# Altium integrated library Vishay Telefunken Discrete Diode.IntLib: 135 symbols (part 2 of 2)
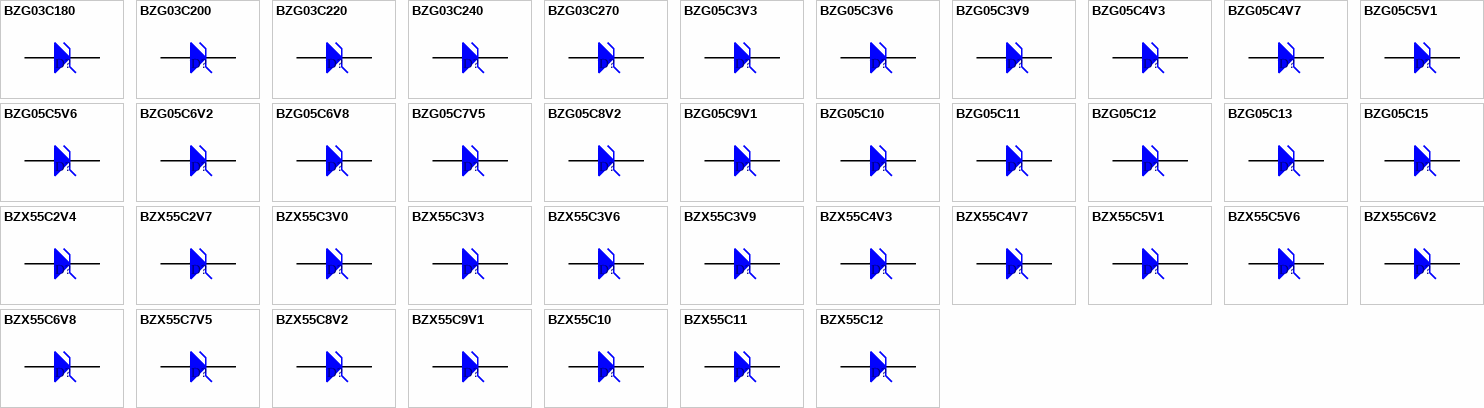
[diagram p4: symbols BZG03C180 to BZX55C12]

## BZX55C11
designator D?
Silicon Epitaxial Planar Zener Diode (0.3 to 0.5W); Published: 8-Jun-2000; LatestRevisionDate: 17-Jul-2002; LatestRevisionNote: Re-released for DXP Platform.; DatasheetDocument: 1-Apr-1999; PackageReference: DO-35; Publisher: Altium Limited; Code_JEDEC: DO-204-AH; ComponentLink1Description: Manufacturer Link; ComponentLink1URL: http://www.vishay.com/; ComponentLink2Description: Datasheet; ComponentLink2URL: http://www.vishay.com/docs/85604/85604.pdf
footprint DO-35 (Diode, Axial; Body 3.9 x 1.7 mm (LxDia. max), Lead Dia. 0.55 mm (max))
simulation model BZX55C11 (SUBCKT)
signal-integrity model BZX55C11
pins: 1 A, 2 K

## BZX55C12
designator D?
Silicon Epitaxial Planar Zener Diode (0.3 to 0.5W); Published: 8-Jun-2000; LatestRevisionDate: 17-Jul-2002; LatestRevisionNote: Re-released for DXP Platform.; DatasheetDocument: 1-Apr-1999; PackageReference: DO-35; Publisher: Altium Limited; Code_JEDEC: DO-204-AH; ComponentLink1Description: Manufacturer Link; ComponentLink1URL: http://www.vishay.com/; ComponentLink2Description: Datasheet; ComponentLink2URL: http://www.vishay.com/docs/85604/85604.pdf
footprint DO-35 (Diode, Axial; Body 3.9 x 1.7 mm (LxDia. max), Lead Dia. 0.55 mm (max))
simulation model BZX55C12 (SUBCKT)
signal-integrity model BZX55C12
pins: 1 A, 2 K

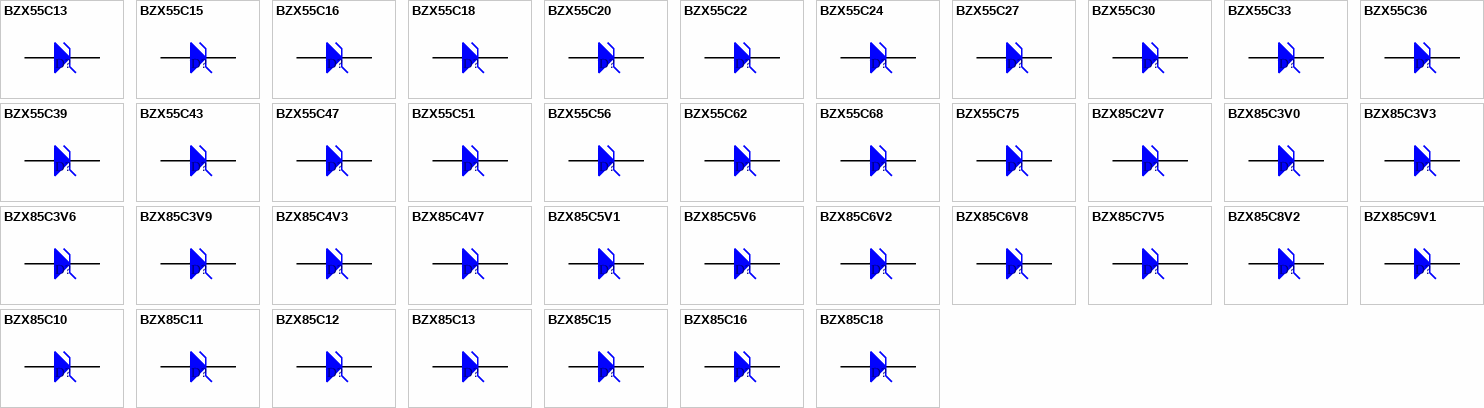
[diagram p2: symbols BZX55C13 to BZX85C18]

## BZX55C13
designator D?
Silicon Epitaxial Planar Zener Diode (0.3 to 0.5W); Published: 8-Jun-2000; LatestRevisionDate: 17-Jul-2002; LatestRevisionNote: Re-released for DXP Platform.; DatasheetDocument: 1-Apr-1999; PackageReference: DO-35; Publisher: Altium Limited; Code_JEDEC: DO-204-AH; ComponentLink1Description: Manufacturer Link; ComponentLink1URL: http://www.vishay.com/; ComponentLink2Description: Datasheet; ComponentLink2URL: http://www.vishay.com/docs/85604/85604.pdf
footprint DO-35 (Diode, Axial; Body 3.9 x 1.7 mm (LxDia. max), Lead Dia. 0.55 mm (max))
simulation model BZX55C13 (SUBCKT)
signal-integrity model BZX55C13
pins: 1 A, 2 K

## BZX55C15
designator D?
Silicon Epitaxial Planar Zener Diode (0.3 to 0.5W); Published: 8-Jun-2000; LatestRevisionDate: 17-Jul-2002; LatestRevisionNote: Re-released for DXP Platform.; DatasheetDocument: 1-Apr-1999; PackageReference: DO-35; Publisher: Altium Limited; Code_JEDEC: DO-204-AH; ComponentLink1Description: Manufacturer Link; ComponentLink1URL: http://www.vishay.com/; ComponentLink2Description: Datasheet; ComponentLink2URL: http://www.vishay.com/docs/85604/85604.pdf
footprint DO-35 (Diode, Axial; Body 3.9 x 1.7 mm (LxDia. max), Lead Dia. 0.55 mm (max))
simulation model BZX55C15 (SUBCKT)
signal-integrity model BZX55C15
pins: 1 A, 2 K

## BZX55C16
designator D?
Silicon Epitaxial Planar Zener Diode (0.3 to 0.5W); Published: 8-Jun-2000; LatestRevisionDate: 17-Jul-2002; LatestRevisionNote: Re-released for DXP Platform.; DatasheetDocument: 1-Apr-1999; PackageReference: DO-35; Publisher: Altium Limited; Code_JEDEC: DO-204-AH; ComponentLink1Description: Manufacturer Link; ComponentLink1URL: http://www.vishay.com/; ComponentLink2Description: Datasheet; ComponentLink2URL: http://www.vishay.com/docs/85604/85604.pdf
footprint DO-35 (Diode, Axial; Body 3.9 x 1.7 mm (LxDia. max), Lead Dia. 0.55 mm (max))
simulation model BZX55C16 (SUBCKT)
signal-integrity model BZX55C16
pins: 1 A, 2 K

## BZX55C18
designator D?
Silicon Epitaxial Planar Zener Diode (0.3 to 0.5W); Published: 8-Jun-2000; LatestRevisionDate: 17-Jul-2002; LatestRevisionNote: Re-released for DXP Platform.; DatasheetDocument: 1-Apr-1999; PackageReference: DO-35; Publisher: Altium Limited; Code_JEDEC: DO-204-AH; ComponentLink1Description: Manufacturer Link; ComponentLink1URL: http://www.vishay.com/; ComponentLink2Description: Datasheet; ComponentLink2URL: http://www.vishay.com/docs/85604/85604.pdf
footprint DO-35 (Diode, Axial; Body 3.9 x 1.7 mm (LxDia. max), Lead Dia. 0.55 mm (max))
simulation model BZX55C18 (SUBCKT)
signal-integrity model BZX55C18
pins: 1 A, 2 K

## BZX55C20
designator D?
Silicon Epitaxial Planar Zener Diode (0.3 to 0.5W); Published: 8-Jun-2000; LatestRevisionDate: 17-Jul-2002; LatestRevisionNote: Re-released for DXP Platform.; DatasheetDocument: 1-Apr-1999; PackageReference: DO-35; Publisher: Altium Limited; Code_JEDEC: DO-204-AH; ComponentLink1Description: Manufacturer Link; ComponentLink1URL: http://www.vishay.com/; ComponentLink2Description: Datasheet; ComponentLink2URL: http://www.vishay.com/docs/85604/85604.pdf
footprint DO-35 (Diode, Axial; Body 3.9 x 1.7 mm (LxDia. max), Lead Dia. 0.55 mm (max))
simulation model BZX55C20 (SUBCKT)
signal-integrity model BZX55C20
pins: 1 A, 2 K

## BZX55C22
designator D?
Silicon Epitaxial Planar Zener Diode (0.3 to 0.5W); Published: 8-Jun-2000; LatestRevisionDate: 17-Jul-2002; LatestRevisionNote: Re-released for DXP Platform.; DatasheetDocument: 1-Apr-1999; PackageReference: DO-35; Publisher: Altium Limited; Code_JEDEC: DO-204-AH; ComponentLink1Description: Manufacturer Link; ComponentLink1URL: http://www.vishay.com/; ComponentLink2Description: Datasheet; ComponentLink2URL: http://www.vishay.com/docs/85604/85604.pdf
footprint DO-35 (Diode, Axial; Body 3.9 x 1.7 mm (LxDia. max), Lead Dia. 0.55 mm (max))
simulation model BZX55C22 (SUBCKT)
signal-integrity model BZX55C22
pins: 1 A, 2 K

## BZX55C24
designator D?
Silicon Epitaxial Planar Zener Diode (0.3 to 0.5W); Published: 8-Jun-2000; LatestRevisionDate: 17-Jul-2002; LatestRevisionNote: Re-released for DXP Platform.; DatasheetDocument: 1-Apr-1999; PackageReference: DO-35; Publisher: Altium Limited; Code_JEDEC: DO-204-AH; ComponentLink1Description: Manufacturer Link; ComponentLink1URL: http://www.vishay.com/; ComponentLink2Description: Datasheet; ComponentLink2URL: http://www.vishay.com/docs/85604/85604.pdf
footprint DO-35 (Diode, Axial; Body 3.9 x 1.7 mm (LxDia. max), Lead Dia. 0.55 mm (max))
simulation model BZX55C24 (SUBCKT)
signal-integrity model BZX55C24
pins: 1 A, 2 K

## BZX55C27
designator D?
Silicon Epitaxial Planar Zener Diode (0.3 to 0.5W); Published: 8-Jun-2000; LatestRevisionDate: 17-Jul-2002; LatestRevisionNote: Re-released for DXP Platform.; DatasheetDocument: 1-Apr-1999; PackageReference: DO-35; Publisher: Altium Limited; Code_JEDEC: DO-204-AH; ComponentLink1Description: Manufacturer Link; ComponentLink1URL: http://www.vishay.com/; ComponentLink2Description: Datasheet; ComponentLink2URL: http://www.vishay.com/docs/85604/85604.pdf
footprint DO-35 (Diode, Axial; Body 3.9 x 1.7 mm (LxDia. max), Lead Dia. 0.55 mm (max))
simulation model BZX55C27 (SUBCKT)
signal-integrity model BZX55C27
pins: 1 A, 2 K

## BZX55C30
designator D?
Silicon Epitaxial Planar Zener Diode (0.3 to 0.5W); Published: 8-Jun-2000; LatestRevisionDate: 17-Jul-2002; LatestRevisionNote: Re-released for DXP Platform.; DatasheetDocument: 1-Apr-1999; PackageReference: DO-35; Publisher: Altium Limited; Code_JEDEC: DO-204-AH; ComponentLink1Description: Manufacturer Link; ComponentLink1URL: http://www.vishay.com/; ComponentLink2Description: Datasheet; ComponentLink2URL: http://www.vishay.com/docs/85604/85604.pdf
footprint DO-35 (Diode, Axial; Body 3.9 x 1.7 mm (LxDia. max), Lead Dia. 0.55 mm (max))
simulation model BZX55C30 (SUBCKT)
signal-integrity model BZX55C30
pins: 1 A, 2 K

## BZX55C33
designator D?
Silicon Epitaxial Planar Zener Diode (0.3 to 0.5W); Published: 8-Jun-2000; LatestRevisionDate: 17-Jul-2002; LatestRevisionNote: Re-released for DXP Platform.; DatasheetDocument: 1-Apr-1999; PackageReference: DO-35; Publisher: Altium Limited; Code_JEDEC: DO-204-AH; ComponentLink1Description: Manufacturer Link; ComponentLink1URL: http://www.vishay.com/; ComponentLink2Description: Datasheet; ComponentLink2URL: http://www.vishay.com/docs/85604/85604.pdf
footprint DO-35 (Diode, Axial; Body 3.9 x 1.7 mm (LxDia. max), Lead Dia. 0.55 mm (max))
simulation model BZX55C33 (SUBCKT)
signal-integrity model BZX55C33
pins: 1 A, 2 K

## BZX55C36
designator D?
Silicon Epitaxial Planar Zener Diode (0.3 to 0.5W); Published: 8-Jun-2000; LatestRevisionDate: 17-Jul-2002; LatestRevisionNote: Re-released for DXP Platform.; DatasheetDocument: 1-Apr-1999; PackageReference: DO-35; Publisher: Altium Limited; Code_JEDEC: DO-204-AH; ComponentLink1Description: Manufacturer Link; ComponentLink1URL: http://www.vishay.com/; ComponentLink2Description: Datasheet; ComponentLink2URL: http://www.vishay.com/docs/85604/85604.pdf
footprint DO-35 (Diode, Axial; Body 3.9 x 1.7 mm (LxDia. max), Lead Dia. 0.55 mm (max))
simulation model BZX55C36 (SUBCKT)
signal-integrity model BZX55C36
pins: 1 A, 2 K

## BZX55C39
designator D?
Silicon Epitaxial Planar Zener Diode (0.3 to 0.5W); Published: 8-Jun-2000; LatestRevisionDate: 17-Jul-2002; LatestRevisionNote: Re-released for DXP Platform.; DatasheetDocument: 1-Apr-1999; PackageReference: DO-35; Publisher: Altium Limited; Code_JEDEC: DO-204-AH; ComponentLink1Description: Manufacturer Link; ComponentLink1URL: http://www.vishay.com/; ComponentLink2Description: Datasheet; ComponentLink2URL: http://www.vishay.com/docs/85604/85604.pdf
footprint DO-35 (Diode, Axial; Body 3.9 x 1.7 mm (LxDia. max), Lead Dia. 0.55 mm (max))
simulation model BZX55C39 (SUBCKT)
signal-integrity model BZX55C39
pins: 1 A, 2 K

## BZX55C43
designator D?
Silicon Epitaxial Planar Zener Diode (0.3 to 0.5W); Published: 8-Jun-2000; LatestRevisionDate: 17-Jul-2002; LatestRevisionNote: Re-released for DXP Platform.; DatasheetDocument: 1-Apr-1999; PackageReference: DO-35; Publisher: Altium Limited; Code_JEDEC: DO-204-AH; ComponentLink1Description: Manufacturer Link; ComponentLink1URL: http://www.vishay.com/; ComponentLink2Description: Datasheet; ComponentLink2URL: http://www.vishay.com/docs/85604/85604.pdf
footprint DO-35 (Diode, Axial; Body 3.9 x 1.7 mm (LxDia. max), Lead Dia. 0.55 mm (max))
simulation model BZX55C43 (SUBCKT)
signal-integrity model BZX55C43
pins: 1 A, 2 K

## BZX55C47
designator D?
Silicon Epitaxial Planar Zener Diode (0.3 to 0.5W); Published: 8-Jun-2000; LatestRevisionDate: 17-Jul-2002; LatestRevisionNote: Re-released for DXP Platform.; DatasheetDocument: 1-Apr-1999; PackageReference: DO-35; Publisher: Altium Limited; Code_JEDEC: DO-204-AH; ComponentLink1Description: Manufacturer Link; ComponentLink1URL: http://www.vishay.com/; ComponentLink2Description: Datasheet; ComponentLink2URL: http://www.vishay.com/docs/85604/85604.pdf
footprint DO-35 (Diode, Axial; Body 3.9 x 1.7 mm (LxDia. max), Lead Dia. 0.55 mm (max))
simulation model BZX55C47 (SUBCKT)
signal-integrity model BZX55C47
pins: 1 A, 2 K

## BZX55C51
designator D?
Silicon Epitaxial Planar Zener Diode (0.3 to 0.5W); Published: 8-Jun-2000; LatestRevisionDate: 17-Jul-2002; LatestRevisionNote: Re-released for DXP Platform.; DatasheetDocument: 1-Apr-1999; PackageReference: DO-35; Publisher: Altium Limited; Code_JEDEC: DO-204-AH; ComponentLink1Description: Manufacturer Link; ComponentLink1URL: http://www.vishay.com/; ComponentLink2Description: Datasheet; ComponentLink2URL: http://www.vishay.com/docs/85604/85604.pdf
footprint DO-35 (Diode, Axial; Body 3.9 x 1.7 mm (LxDia. max), Lead Dia. 0.55 mm (max))
simulation model BZX55C51 (SUBCKT)
signal-integrity model BZX55C51
pins: 1 A, 2 K

## BZX55C56
designator D?
Silicon Epitaxial Planar Zener Diode (0.3 to 0.5W); Published: 8-Jun-2000; LatestRevisionDate: 17-Jul-2002; LatestRevisionNote: Re-released for DXP Platform.; DatasheetDocument: 1-Apr-1999; PackageReference: DO-35; Publisher: Altium Limited; Code_JEDEC: DO-204-AH; ComponentLink1Description: Manufacturer Link; ComponentLink1URL: http://www.vishay.com/; ComponentLink2Description: Datasheet; ComponentLink2URL: http://www.vishay.com/docs/85604/85604.pdf
footprint DO-35 (Diode, Axial; Body 3.9 x 1.7 mm (LxDia. max), Lead Dia. 0.55 mm (max))
simulation model BZX55C56 (SUBCKT)
signal-integrity model BZX55C56
pins: 1 A, 2 K

## BZX55C62
designator D?
Silicon Epitaxial Planar Zener Diode (0.3 to 0.5W); Published: 8-Jun-2000; LatestRevisionDate: 17-Jul-2002; LatestRevisionNote: Re-released for DXP Platform.; DatasheetDocument: 1-Apr-1999; PackageReference: DO-35; Publisher: Altium Limited; Code_JEDEC: DO-204-AH; ComponentLink1Description: Manufacturer Link; ComponentLink1URL: http://www.vishay.com/; ComponentLink2Description: Datasheet; ComponentLink2URL: http://www.vishay.com/docs/85604/85604.pdf
footprint DO-35 (Diode, Axial; Body 3.9 x 1.7 mm (LxDia. max), Lead Dia. 0.55 mm (max))
simulation model BZX55C62 (SUBCKT)
signal-integrity model BZX55C62
pins: 1 A, 2 K

## BZX55C68
designator D?
Silicon Epitaxial Planar Zener Diode (0.3 to 0.5W); Published: 8-Jun-2000; LatestRevisionDate: 17-Jul-2002; LatestRevisionNote: Re-released for DXP Platform.; DatasheetDocument: 1-Apr-1999; PackageReference: DO-35; Publisher: Altium Limited; Code_JEDEC: DO-204-AH; ComponentLink1Description: Manufacturer Link; ComponentLink1URL: http://www.vishay.com/; ComponentLink2Description: Datasheet; ComponentLink2URL: http://www.vishay.com/docs/85604/85604.pdf
footprint DO-35 (Diode, Axial; Body 3.9 x 1.7 mm (LxDia. max), Lead Dia. 0.55 mm (max))
simulation model BZX55C68 (SUBCKT)
signal-integrity model BZX55C68
pins: 1 A, 2 K

## BZX55C75
designator D?
Silicon Epitaxial Planar Zener Diode (0.3 to 0.5W); Published: 8-Jun-2000; LatestRevisionDate: 17-Jul-2002; LatestRevisionNote: Re-released for DXP Platform.; DatasheetDocument: 1-Apr-1999; PackageReference: DO-35; Publisher: Altium Limited; Code_JEDEC: DO-204-AH; ComponentLink1Description: Manufacturer Link; ComponentLink1URL: http://www.vishay.com/; ComponentLink2Description: Datasheet; ComponentLink2URL: http://www.vishay.com/docs/85604/85604.pdf
footprint DO-35 (Diode, Axial; Body 3.9 x 1.7 mm (LxDia. max), Lead Dia. 0.55 mm (max))
simulation model BZX55C75 (SUBCKT)
signal-integrity model BZX55C75
pins: 1 A, 2 K

## BZX85C2V7
designator D?
Silicon Epitaxial Planar Zener Diode (1W); Published: 8-Jun-2000; LatestRevisionDate: 17-Jul-2002; LatestRevisionNote: Re-released for DXP Platform.; DatasheetDocument: 1-Apr-1999; PackageReference: DO41; Publisher: Altium Limited; Code_JEDEC: DO-204-AM; ComponentLink1Description: Manufacturer Link; ComponentLink1URL: http://www.vishay.com/; ComponentLink2Description: Datasheet; ComponentLink2URL: http://www.vishay.com/docs/85607/85607.pdf
footprint DO41 (Diode, Axial; Body 4.1 x 2.5 mm (LxDia. max), Lead Dia. 0.85 mm (max))
simulation model BZX85C2V7 (SUBCKT)
signal-integrity model BZX85C2V7
pins: 1 A, 2 K

## BZX85C3V0
designator D?
Silicon Epitaxial Planar Zener Diode (1W); Published: 8-Jun-2000; LatestRevisionDate: 17-Jul-2002; LatestRevisionNote: Re-released for DXP Platform.; DatasheetDocument: 1-Apr-1999; PackageReference: DO41; Publisher: Altium Limited; Code_JEDEC: DO-204-AM; ComponentLink1Description: Manufacturer Link; ComponentLink1URL: http://www.vishay.com/; ComponentLink2Description: Datasheet; ComponentLink2URL: http://www.vishay.com/docs/85607/85607.pdf
footprint DO41 (Diode, Axial; Body 4.1 x 2.5 mm (LxDia. max), Lead Dia. 0.85 mm (max))
simulation model BZX85C3V0 (SUBCKT)
signal-integrity model BZX85C3V0
pins: 1 A, 2 K

## BZX85C3V3
designator D?
Silicon Epitaxial Planar Zener Diode (1W); Published: 8-Jun-2000; LatestRevisionDate: 17-Jul-2002; LatestRevisionNote: Re-released for DXP Platform.; DatasheetDocument: 1-Apr-1999; PackageReference: DO41; Publisher: Altium Limited; Code_JEDEC: DO-204-AM; ComponentLink1Description: Manufacturer Link; ComponentLink1URL: http://www.vishay.com/; ComponentLink2Description: Datasheet; ComponentLink2URL: http://www.vishay.com/docs/85607/85607.pdf
footprint DO41 (Diode, Axial; Body 4.1 x 2.5 mm (LxDia. max), Lead Dia. 0.85 mm (max))
simulation model BZX85C3V3 (SUBCKT)
signal-integrity model BZX85C3V3
pins: 1 A, 2 K

## BZX85C3V6
designator D?
Silicon Epitaxial Planar Zener Diode (1W); Published: 8-Jun-2000; LatestRevisionDate: 17-Jul-2002; LatestRevisionNote: Re-released for DXP Platform.; DatasheetDocument: 1-Apr-1999; PackageReference: DO41; Publisher: Altium Limited; Code_JEDEC: DO-204-AM; ComponentLink1Description: Manufacturer Link; ComponentLink1URL: http://www.vishay.com/; ComponentLink2Description: Datasheet; ComponentLink2URL: http://www.vishay.com/docs/85607/85607.pdf
footprint DO41 (Diode, Axial; Body 4.1 x 2.5 mm (LxDia. max), Lead Dia. 0.85 mm (max))
simulation model BZX85C3V6 (SUBCKT)
signal-integrity model BZX85C3V6
pins: 1 A, 2 K

## BZX85C3V9
designator D?
Silicon Epitaxial Planar Zener Diode (1W); Published: 8-Jun-2000; LatestRevisionDate: 17-Jul-2002; LatestRevisionNote: Re-released for DXP Platform.; DatasheetDocument: 1-Apr-1999; PackageReference: DO41; Publisher: Altium Limited; Code_JEDEC: DO-204-AM; ComponentLink1Description: Manufacturer Link; ComponentLink1URL: http://www.vishay.com/; ComponentLink2Description: Datasheet; ComponentLink2URL: http://www.vishay.com/docs/85607/85607.pdf
footprint DO41 (Diode, Axial; Body 4.1 x 2.5 mm (LxDia. max), Lead Dia. 0.85 mm (max))
simulation model BZX85C3V9 (SUBCKT)
signal-integrity model BZX85C3V9
pins: 1 A, 2 K

## BZX85C4V3
designator D?
Silicon Epitaxial Planar Zener Diode (1W); Published: 8-Jun-2000; LatestRevisionDate: 17-Jul-2002; LatestRevisionNote: Re-released for DXP Platform.; DatasheetDocument: 1-Apr-1999; PackageReference: DO41; Publisher: Altium Limited; Code_JEDEC: DO-204-AM; ComponentLink1Description: Manufacturer Link; ComponentLink1URL: http://www.vishay.com/; ComponentLink2Description: Datasheet; ComponentLink2URL: http://www.vishay.com/docs/85607/85607.pdf
footprint DO41 (Diode, Axial; Body 4.1 x 2.5 mm (LxDia. max), Lead Dia. 0.85 mm (max))
simulation model BZX85C4V3 (SUBCKT)
signal-integrity model BZX85C4V3
pins: 1 A, 2 K

## BZX85C4V7
designator D?
Silicon Epitaxial Planar Zener Diode (1W); Published: 8-Jun-2000; LatestRevisionDate: 17-Jul-2002; LatestRevisionNote: Re-released for DXP Platform.; DatasheetDocument: 1-Apr-1999; PackageReference: DO41; Publisher: Altium Limited; Code_JEDEC: DO-204-AM; ComponentLink1Description: Manufacturer Link; ComponentLink1URL: http://www.vishay.com/; ComponentLink2Description: Datasheet; ComponentLink2URL: http://www.vishay.com/docs/85607/85607.pdf
footprint DO41 (Diode, Axial; Body 4.1 x 2.5 mm (LxDia. max), Lead Dia. 0.85 mm (max))
simulation model BZX85C4V7 (SUBCKT)
signal-integrity model BZX85C4V7
pins: 1 A, 2 K

## BZX85C5V1
designator D?
Silicon Epitaxial Planar Zener Diode (1W); Published: 8-Jun-2000; LatestRevisionDate: 17-Jul-2002; LatestRevisionNote: Re-released for DXP Platform.; DatasheetDocument: 1-Apr-1999; PackageReference: DO41; Publisher: Altium Limited; Code_JEDEC: DO-204-AM; ComponentLink1Description: Manufacturer Link; ComponentLink1URL: http://www.vishay.com/; ComponentLink2Description: Datasheet; ComponentLink2URL: http://www.vishay.com/docs/85607/85607.pdf
footprint DO41 (Diode, Axial; Body 4.1 x 2.5 mm (LxDia. max), Lead Dia. 0.85 mm (max))
simulation model BZX85C5V1 (SUBCKT)
signal-integrity model BZX85C5V1
pins: 1 A, 2 K

## BZX85C5V6
designator D?
Silicon Epitaxial Planar Zener Diode (1W); Published: 8-Jun-2000; LatestRevisionDate: 17-Jul-2002; LatestRevisionNote: Re-released for DXP Platform.; DatasheetDocument: 1-Apr-1999; PackageReference: DO41; Publisher: Altium Limited; Code_JEDEC: DO-204-AM; ComponentLink1Description: Manufacturer Link; ComponentLink1URL: http://www.vishay.com/; ComponentLink2Description: Datasheet; ComponentLink2URL: http://www.vishay.com/docs/85607/85607.pdf
footprint DO41 (Diode, Axial; Body 4.1 x 2.5 mm (LxDia. max), Lead Dia. 0.85 mm (max))
simulation model BZX85C5V6 (SUBCKT)
signal-integrity model BZX85C5V6
pins: 1 A, 2 K

## BZX85C6V2
designator D?
Silicon Epitaxial Planar Zener Diode (1W); Published: 8-Jun-2000; LatestRevisionDate: 17-Jul-2002; LatestRevisionNote: Re-released for DXP Platform.; DatasheetDocument: 1-Apr-1999; PackageReference: DO41; Publisher: Altium Limited; Code_JEDEC: DO-204-AM; ComponentLink1Description: Manufacturer Link; ComponentLink1URL: http://www.vishay.com/; ComponentLink2Description: Datasheet; ComponentLink2URL: http://www.vishay.com/docs/85607/85607.pdf
footprint DO41 (Diode, Axial; Body 4.1 x 2.5 mm (LxDia. max), Lead Dia. 0.85 mm (max))
simulation model BZX85C6V2 (SUBCKT)
signal-integrity model BZX85C6V2
pins: 1 A, 2 K

## BZX85C6V8
designator D?
Silicon Epitaxial Planar Zener Diode (1W); Published: 8-Jun-2000; LatestRevisionDate: 17-Jul-2002; LatestRevisionNote: Re-released for DXP Platform.; DatasheetDocument: 1-Apr-1999; PackageReference: DO41; Publisher: Altium Limited; Code_JEDEC: DO-204-AM; ComponentLink1Description: Manufacturer Link; ComponentLink1URL: http://www.vishay.com/; ComponentLink2Description: Datasheet; ComponentLink2URL: http://www.vishay.com/docs/85607/85607.pdf
footprint DO41 (Diode, Axial; Body 4.1 x 2.5 mm (LxDia. max), Lead Dia. 0.85 mm (max))
simulation model BZX85C6V8 (SUBCKT)
signal-integrity model BZX85C6V8
pins: 1 A, 2 K

## BZX85C7V5
designator D?
Silicon Epitaxial Planar Zener Diode (1W); Published: 8-Jun-2000; LatestRevisionDate: 17-Jul-2002; LatestRevisionNote: Re-released for DXP Platform.; DatasheetDocument: 1-Apr-1999; PackageReference: DO41; Publisher: Altium Limited; Code_JEDEC: DO-204-AM; ComponentLink1Description: Manufacturer Link; ComponentLink1URL: http://www.vishay.com/; ComponentLink2Description: Datasheet; ComponentLink2URL: http://www.vishay.com/docs/85607/85607.pdf
footprint DO41 (Diode, Axial; Body 4.1 x 2.5 mm (LxDia. max), Lead Dia. 0.85 mm (max))
simulation model BZX85C7V5 (SUBCKT)
signal-integrity model BZX85C7V5
pins: 1 A, 2 K

## BZX85C8V2
designator D?
Silicon Epitaxial Planar Zener Diode (1W); Published: 8-Jun-2000; LatestRevisionDate: 17-Jul-2002; LatestRevisionNote: Re-released for DXP Platform.; DatasheetDocument: 1-Apr-1999; PackageReference: DO41; Publisher: Altium Limited; Code_JEDEC: DO-204-AM; ComponentLink1Description: Manufacturer Link; ComponentLink1URL: http://www.vishay.com/; ComponentLink2Description: Datasheet; ComponentLink2URL: http://www.vishay.com/docs/85607/85607.pdf
footprint DO41 (Diode, Axial; Body 4.1 x 2.5 mm (LxDia. max), Lead Dia. 0.85 mm (max))
simulation model BZX85C8V2 (SUBCKT)
signal-integrity model BZX85C8V2
pins: 1 A, 2 K

## BZX85C9V1
designator D?
Silicon Epitaxial Planar Zener Diode (1W); Published: 8-Jun-2000; LatestRevisionDate: 17-Jul-2002; LatestRevisionNote: Re-released for DXP Platform.; DatasheetDocument: 1-Apr-1999; PackageReference: DO41; Publisher: Altium Limited; Code_JEDEC: DO-204-AM; ComponentLink1Description: Manufacturer Link; ComponentLink1URL: http://www.vishay.com/; ComponentLink2Description: Datasheet; ComponentLink2URL: http://www.vishay.com/docs/85607/85607.pdf
footprint DO41 (Diode, Axial; Body 4.1 x 2.5 mm (LxDia. max), Lead Dia. 0.85 mm (max))
simulation model BZX85C9V1 (SUBCKT)
signal-integrity model BZX85C9V1
pins: 1 A, 2 K

## BZX85C10
designator D?
Silicon Epitaxial Planar Zener Diode (1W); Published: 8-Jun-2000; LatestRevisionDate: 17-Jul-2002; LatestRevisionNote: Re-released for DXP Platform.; DatasheetDocument: 1-Apr-1999; PackageReference: DO41; Publisher: Altium Limited; Code_JEDEC: DO-204-AM; ComponentLink1Description: Manufacturer Link; ComponentLink1URL: http://www.vishay.com/; ComponentLink2Description: Datasheet; ComponentLink2URL: http://www.vishay.com/docs/85607/85607.pdf
footprint DO41 (Diode, Axial; Body 4.1 x 2.5 mm (LxDia. max), Lead Dia. 0.85 mm (max))
simulation model BZX85C10 (SUBCKT)
signal-integrity model BZX85C10
pins: 1 A, 2 K

## BZX85C11
designator D?
Silicon Epitaxial Planar Zener Diode (1W); Published: 8-Jun-2000; LatestRevisionDate: 17-Jul-2002; LatestRevisionNote: Re-released for DXP Platform.; DatasheetDocument: 1-Apr-1999; PackageReference: DO41; Publisher: Altium Limited; Code_JEDEC: DO-204-AM; ComponentLink1Description: Manufacturer Link; ComponentLink1URL: http://www.vishay.com/; ComponentLink2Description: Datasheet; ComponentLink2URL: http://www.vishay.com/docs/85607/85607.pdf
footprint DO41 (Diode, Axial; Body 4.1 x 2.5 mm (LxDia. max), Lead Dia. 0.85 mm (max))
simulation model BZX85C11 (SUBCKT)
signal-integrity model BZX85C11
pins: 1 A, 2 K

## BZX85C12
designator D?
Silicon Epitaxial Planar Zener Diode (1W); Published: 8-Jun-2000; LatestRevisionDate: 17-Jul-2002; LatestRevisionNote: Re-released for DXP Platform.; DatasheetDocument: 1-Apr-1999; PackageReference: DO41; Publisher: Altium Limited; Code_JEDEC: DO-204-AM; ComponentLink1Description: Manufacturer Link; ComponentLink1URL: http://www.vishay.com/; ComponentLink2Description: Datasheet; ComponentLink2URL: http://www.vishay.com/docs/85607/85607.pdf
footprint DO41 (Diode, Axial; Body 4.1 x 2.5 mm (LxDia. max), Lead Dia. 0.85 mm (max))
simulation model BZX85C12 (SUBCKT)
signal-integrity model BZX85C12
pins: 1 A, 2 K

## BZX85C13
designator D?
Silicon Epitaxial Planar Zener Diode (1W); Published: 8-Jun-2000; LatestRevisionDate: 17-Jul-2002; LatestRevisionNote: Re-released for DXP Platform.; DatasheetDocument: 1-Apr-1999; PackageReference: DO41; Publisher: Altium Limited; Code_JEDEC: DO-204-AM; ComponentLink1Description: Manufacturer Link; ComponentLink1URL: http://www.vishay.com/; ComponentLink2Description: Datasheet; ComponentLink2URL: http://www.vishay.com/docs/85607/85607.pdf
footprint DO41 (Diode, Axial; Body 4.1 x 2.5 mm (LxDia. max), Lead Dia. 0.85 mm (max))
simulation model BZX85C13 (SUBCKT)
signal-integrity model BZX85C13
pins: 1 A, 2 K

## BZX85C15
designator D?
Silicon Epitaxial Planar Zener Diode (1W); Published: 8-Jun-2000; LatestRevisionDate: 17-Jul-2002; LatestRevisionNote: Re-released for DXP Platform.; DatasheetDocument: 1-Apr-1999; PackageReference: DO41; Publisher: Altium Limited; Code_JEDEC: DO-204-AM; ComponentLink1Description: Manufacturer Link; ComponentLink1URL: http://www.vishay.com/; ComponentLink2Description: Datasheet; ComponentLink2URL: http://www.vishay.com/docs/85607/85607.pdf
footprint DO41 (Diode, Axial; Body 4.1 x 2.5 mm (LxDia. max), Lead Dia. 0.85 mm (max))
simulation model BZX85C15 (SUBCKT)
signal-integrity model BZX85C15
pins: 1 A, 2 K

## BZX85C16
designator D?
Silicon Epitaxial Planar Zener Diode (1W); Published: 8-Jun-2000; LatestRevisionDate: 17-Jul-2002; LatestRevisionNote: Re-released for DXP Platform.; DatasheetDocument: 1-Apr-1999; PackageReference: DO41; Publisher: Altium Limited; Code_JEDEC: DO-204-AM; ComponentLink1Description: Manufacturer Link; ComponentLink1URL: http://www.vishay.com/; ComponentLink2Description: Datasheet; ComponentLink2URL: http://www.vishay.com/docs/85607/85607.pdf
footprint DO41 (Diode, Axial; Body 4.1 x 2.5 mm (LxDia. max), Lead Dia. 0.85 mm (max))
simulation model BZX85C16 (SUBCKT)
signal-integrity model BZX85C16
pins: 1 A, 2 K

## BZX85C18
designator D?
Silicon Epitaxial Planar Zener Diode (1W); Published: 8-Jun-2000; LatestRevisionDate: 17-Jul-2002; LatestRevisionNote: Re-released for DXP Platform.; DatasheetDocument: 1-Apr-1999; PackageReference: DO41; Publisher: Altium Limited; Code_JEDEC: DO-204-AM; ComponentLink1Description: Manufacturer Link; ComponentLink1URL: http://www.vishay.com/; ComponentLink2Description: Datasheet; ComponentLink2URL: http://www.vishay.com/docs/85607/85607.pdf
footprint DO41 (Diode, Axial; Body 4.1 x 2.5 mm (LxDia. max), Lead Dia. 0.85 mm (max))
simulation model BZX85C18 (SUBCKT)
signal-integrity model BZX85C18
pins: 1 A, 2 K

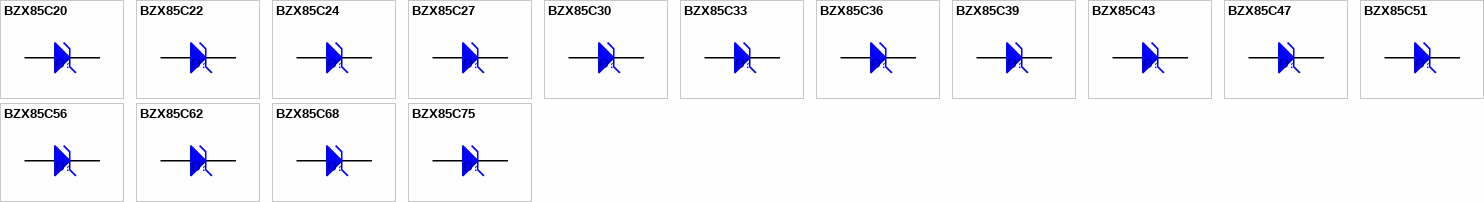
[diagram p3: symbols BZX85C20 to BZX85C75]

## BZX85C20
designator D?
Silicon Epitaxial Planar Zener Diode (1W); Published: 8-Jun-2000; LatestRevisionDate: 17-Jul-2002; LatestRevisionNote: Re-released for DXP Platform.; DatasheetDocument: 1-Apr-1999; PackageReference: DO41; Publisher: Altium Limited; Code_JEDEC: DO-204-AM; ComponentLink1Description: Manufacturer Link; ComponentLink1URL: http://www.vishay.com/; ComponentLink2Description: Datasheet; ComponentLink2URL: http://www.vishay.com/docs/85607/85607.pdf
footprint DO41 (Diode, Axial; Body 4.1 x 2.5 mm (LxDia. max), Lead Dia. 0.85 mm (max))
simulation model BZX85C20 (SUBCKT)
signal-integrity model BZX85C20
pins: 1 A, 2 K

## BZX85C22
designator D?
Silicon Epitaxial Planar Zener Diode (1W); Published: 8-Jun-2000; LatestRevisionDate: 17-Jul-2002; LatestRevisionNote: Re-released for DXP Platform.; DatasheetDocument: 1-Apr-1999; PackageReference: DO41; Publisher: Altium Limited; Code_JEDEC: DO-204-AM; ComponentLink1Description: Manufacturer Link; ComponentLink1URL: http://www.vishay.com/; ComponentLink2Description: Datasheet; ComponentLink2URL: http://www.vishay.com/docs/85607/85607.pdf
footprint DO41 (Diode, Axial; Body 4.1 x 2.5 mm (LxDia. max), Lead Dia. 0.85 mm (max))
simulation model BZX85C22 (SUBCKT)
signal-integrity model BZX85C22
pins: 1 A, 2 K

## BZX85C24
designator D?
Silicon Epitaxial Planar Zener Diode (1W); Published: 8-Jun-2000; LatestRevisionDate: 17-Jul-2002; LatestRevisionNote: Re-released for DXP Platform.; DatasheetDocument: 1-Apr-1999; PackageReference: DO41; Publisher: Altium Limited; Code_JEDEC: DO-204-AM; ComponentLink1Description: Manufacturer Link; ComponentLink1URL: http://www.vishay.com/; ComponentLink2Description: Datasheet; ComponentLink2URL: http://www.vishay.com/docs/85607/85607.pdf
footprint DO41 (Diode, Axial; Body 4.1 x 2.5 mm (LxDia. max), Lead Dia. 0.85 mm (max))
simulation model BZX85C24 (SUBCKT)
signal-integrity model BZX85C24
pins: 1 A, 2 K

## BZX85C27
designator D?
Silicon Epitaxial Planar Zener Diode (1W); Published: 8-Jun-2000; LatestRevisionDate: 17-Jul-2002; LatestRevisionNote: Re-released for DXP Platform.; DatasheetDocument: 1-Apr-1999; PackageReference: DO41; Publisher: Altium Limited; Code_JEDEC: DO-204-AM; ComponentLink1Description: Manufacturer Link; ComponentLink1URL: http://www.vishay.com/; ComponentLink2Description: Datasheet; ComponentLink2URL: http://www.vishay.com/docs/85607/85607.pdf
footprint DO41 (Diode, Axial; Body 4.1 x 2.5 mm (LxDia. max), Lead Dia. 0.85 mm (max))
simulation model BZX85C27 (SUBCKT)
signal-integrity model BZX85C27
pins: 1 A, 2 K

## BZX85C30
designator D?
Silicon Epitaxial Planar Zener Diode (1W); Published: 8-Jun-2000; LatestRevisionDate: 17-Jul-2002; LatestRevisionNote: Re-released for DXP Platform.; DatasheetDocument: 1-Apr-1999; PackageReference: DO41; Publisher: Altium Limited; Code_JEDEC: DO-204-AM; ComponentLink1Description: Manufacturer Link; ComponentLink1URL: http://www.vishay.com/; ComponentLink2Description: Datasheet; ComponentLink2URL: http://www.vishay.com/docs/85607/85607.pdf
footprint DO41 (Diode, Axial; Body 4.1 x 2.5 mm (LxDia. max), Lead Dia. 0.85 mm (max))
simulation model BZX85C30 (SUBCKT)
signal-integrity model BZX85C30
pins: 1 A, 2 K

## BZX85C33
designator D?
Silicon Epitaxial Planar Zener Diode (1W); Published: 8-Jun-2000; LatestRevisionDate: 17-Jul-2002; LatestRevisionNote: Re-released for DXP Platform.; DatasheetDocument: 1-Apr-1999; PackageReference: DO41; Publisher: Altium Limited; Code_JEDEC: DO-204-AM; ComponentLink1Description: Manufacturer Link; ComponentLink1URL: http://www.vishay.com/; ComponentLink2Description: Datasheet; ComponentLink2URL: http://www.vishay.com/docs/85607/85607.pdf
footprint DO41 (Diode, Axial; Body 4.1 x 2.5 mm (LxDia. max), Lead Dia. 0.85 mm (max))
simulation model BZX85C33 (SUBCKT)
signal-integrity model BZX85C33
pins: 1 A, 2 K

## BZX85C36
designator D?
Silicon Epitaxial Planar Zener Diode (1W); Published: 8-Jun-2000; LatestRevisionDate: 17-Jul-2002; LatestRevisionNote: Re-released for DXP Platform.; DatasheetDocument: 1-Apr-1999; PackageReference: DO41; Publisher: Altium Limited; Code_JEDEC: DO-204-AM; ComponentLink1Description: Manufacturer Link; ComponentLink1URL: http://www.vishay.com/; ComponentLink2Description: Datasheet; ComponentLink2URL: http://www.vishay.com/docs/85607/85607.pdf
footprint DO41 (Diode, Axial; Body 4.1 x 2.5 mm (LxDia. max), Lead Dia. 0.85 mm (max))
simulation model BZX85C36 (SUBCKT)
signal-integrity model BZX85C36
pins: 1 A, 2 K

## BZX85C39
designator D?
Silicon Epitaxial Planar Zener Diode (1W); Published: 8-Jun-2000; LatestRevisionDate: 17-Jul-2002; LatestRevisionNote: Re-released for DXP Platform.; DatasheetDocument: 1-Apr-1999; PackageReference: DO41; Publisher: Altium Limited; Code_JEDEC: DO-204-AM; ComponentLink1Description: Manufacturer Link; ComponentLink1URL: http://www.vishay.com/; ComponentLink2Description: Datasheet; ComponentLink2URL: http://www.vishay.com/docs/85607/85607.pdf
footprint DO41 (Diode, Axial; Body 4.1 x 2.5 mm (LxDia. max), Lead Dia. 0.85 mm (max))
simulation model BZX85C39 (SUBCKT)
signal-integrity model BZX85C39
pins: 1 A, 2 K

## BZX85C43
designator D?
Silicon Epitaxial Planar Zener Diode (1W); Published: 8-Jun-2000; LatestRevisionDate: 17-Jul-2002; LatestRevisionNote: Re-released for DXP Platform.; DatasheetDocument: 1-Apr-1999; PackageReference: DO41; Publisher: Altium Limited; Code_JEDEC: DO-204-AM; ComponentLink1Description: Manufacturer Link; ComponentLink1URL: http://www.vishay.com/; ComponentLink2Description: Datasheet; ComponentLink2URL: http://www.vishay.com/docs/85607/85607.pdf
footprint DO41 (Diode, Axial; Body 4.1 x 2.5 mm (LxDia. max), Lead Dia. 0.85 mm (max))
simulation model BZX85C43 (SUBCKT)
signal-integrity model BZX85C43
pins: 1 A, 2 K

## BZX85C47
designator D?
Silicon Epitaxial Planar Zener Diode (1W); Published: 8-Jun-2000; LatestRevisionDate: 17-Jul-2002; LatestRevisionNote: Re-released for DXP Platform.; DatasheetDocument: 1-Apr-1999; PackageReference: DO41; Publisher: Altium Limited; Code_JEDEC: DO-204-AM; ComponentLink1Description: Manufacturer Link; ComponentLink1URL: http://www.vishay.com/; ComponentLink2Description: Datasheet; ComponentLink2URL: http://www.vishay.com/docs/85607/85607.pdf
footprint DO41 (Diode, Axial; Body 4.1 x 2.5 mm (LxDia. max), Lead Dia. 0.85 mm (max))
simulation model BZX85C47 (SUBCKT)
signal-integrity model BZX85C47
pins: 1 A, 2 K

## BZX85C51
designator D?
Silicon Epitaxial Planar Zener Diode (1W); Published: 8-Jun-2000; LatestRevisionDate: 17-Jul-2002; LatestRevisionNote: Re-released for DXP Platform.; DatasheetDocument: 1-Apr-1999; PackageReference: DO41; Publisher: Altium Limited; Code_JEDEC: DO-204-AM; ComponentLink1Description: Manufacturer Link; ComponentLink1URL: http://www.vishay.com/; ComponentLink2Description: Datasheet; ComponentLink2URL: http://www.vishay.com/docs/85607/85607.pdf
footprint DO41 (Diode, Axial; Body 4.1 x 2.5 mm (LxDia. max), Lead Dia. 0.85 mm (max))
simulation model BZX85C51 (SUBCKT)
signal-integrity model BZX85C51
pins: 1 A, 2 K

## BZX85C56
designator D?
Silicon Epitaxial Planar Zener Diode (1W); Published: 8-Jun-2000; LatestRevisionDate: 17-Jul-2002; LatestRevisionNote: Re-released for DXP Platform.; DatasheetDocument: 1-Apr-1999; PackageReference: DO41; Publisher: Altium Limited; Code_JEDEC: DO-204-AM; ComponentLink1Description: Manufacturer Link; ComponentLink1URL: http://www.vishay.com/; ComponentLink2Description: Datasheet; ComponentLink2URL: http://www.vishay.com/docs/85607/85607.pdf
footprint DO41 (Diode, Axial; Body 4.1 x 2.5 mm (LxDia. max), Lead Dia. 0.85 mm (max))
simulation model BZX85C56 (SUBCKT)
signal-integrity model BZX85C56
pins: 1 A, 2 K

## BZX85C62
designator D?
Silicon Epitaxial Planar Zener Diode (1W); Published: 8-Jun-2000; LatestRevisionDate: 17-Jul-2002; LatestRevisionNote: Re-released for DXP Platform.; DatasheetDocument: 1-Apr-1999; PackageReference: DO41; Publisher: Altium Limited; Code_JEDEC: DO-204-AM; ComponentLink1Description: Manufacturer Link; ComponentLink1URL: http://www.vishay.com/; ComponentLink2Description: Datasheet; ComponentLink2URL: http://www.vishay.com/docs/85607/85607.pdf
footprint DO41 (Diode, Axial; Body 4.1 x 2.5 mm (LxDia. max), Lead Dia. 0.85 mm (max))
simulation model BZX85C62 (SUBCKT)
signal-integrity model BZX85C62
pins: 1 A, 2 K

## BZX85C68
designator D?
Silicon Epitaxial Planar Zener Diode (1W); Published: 8-Jun-2000; LatestRevisionDate: 17-Jul-2002; LatestRevisionNote: Re-released for DXP Platform.; DatasheetDocument: 1-Apr-1999; PackageReference: DO41; Publisher: Altium Limited; Code_JEDEC: DO-204-AM; ComponentLink1Description: Manufacturer Link; ComponentLink1URL: http://www.vishay.com/; ComponentLink2Description: Datasheet; ComponentLink2URL: http://www.vishay.com/docs/85607/85607.pdf
footprint DO41 (Diode, Axial; Body 4.1 x 2.5 mm (LxDia. max), Lead Dia. 0.85 mm (max))
simulation model BZX85C68 (SUBCKT)
signal-integrity model BZX85C68
pins: 1 A, 2 K

## BZX85C75
designator D?
Silicon Epitaxial Planar Zener Diode (1W); Published: 8-Jun-2000; LatestRevisionDate: 17-Jul-2002; LatestRevisionNote: Re-released for DXP Platform.; DatasheetDocument: 1-Apr-1999; PackageReference: DO41; Publisher: Altium Limited; Code_JEDEC: DO-204-AM; ComponentLink1Description: Manufacturer Link; ComponentLink1URL: http://www.vishay.com/; ComponentLink2Description: Datasheet; ComponentLink2URL: http://www.vishay.com/docs/85607/85607.pdf
footprint DO41 (Diode, Axial; Body 4.1 x 2.5 mm (LxDia. max), Lead Dia. 0.85 mm (max))
simulation model BZX85C75 (SUBCKT)
signal-integrity model BZX85C75
pins: 1 A, 2 K